# Altium footprint library AMP Footprints.PcbLib: 903 footprints (part 25 of 58)
Each footprint in its own frame and in the unit in brackets; x right, y up, seen from the top. Pads: shape width x height; smd on the part's side, far side on the other; paste and mask are expansions set on the pad; w line width, h text height; cw(c..) or ccw(c..) is an arc to the next point about the centre after c.
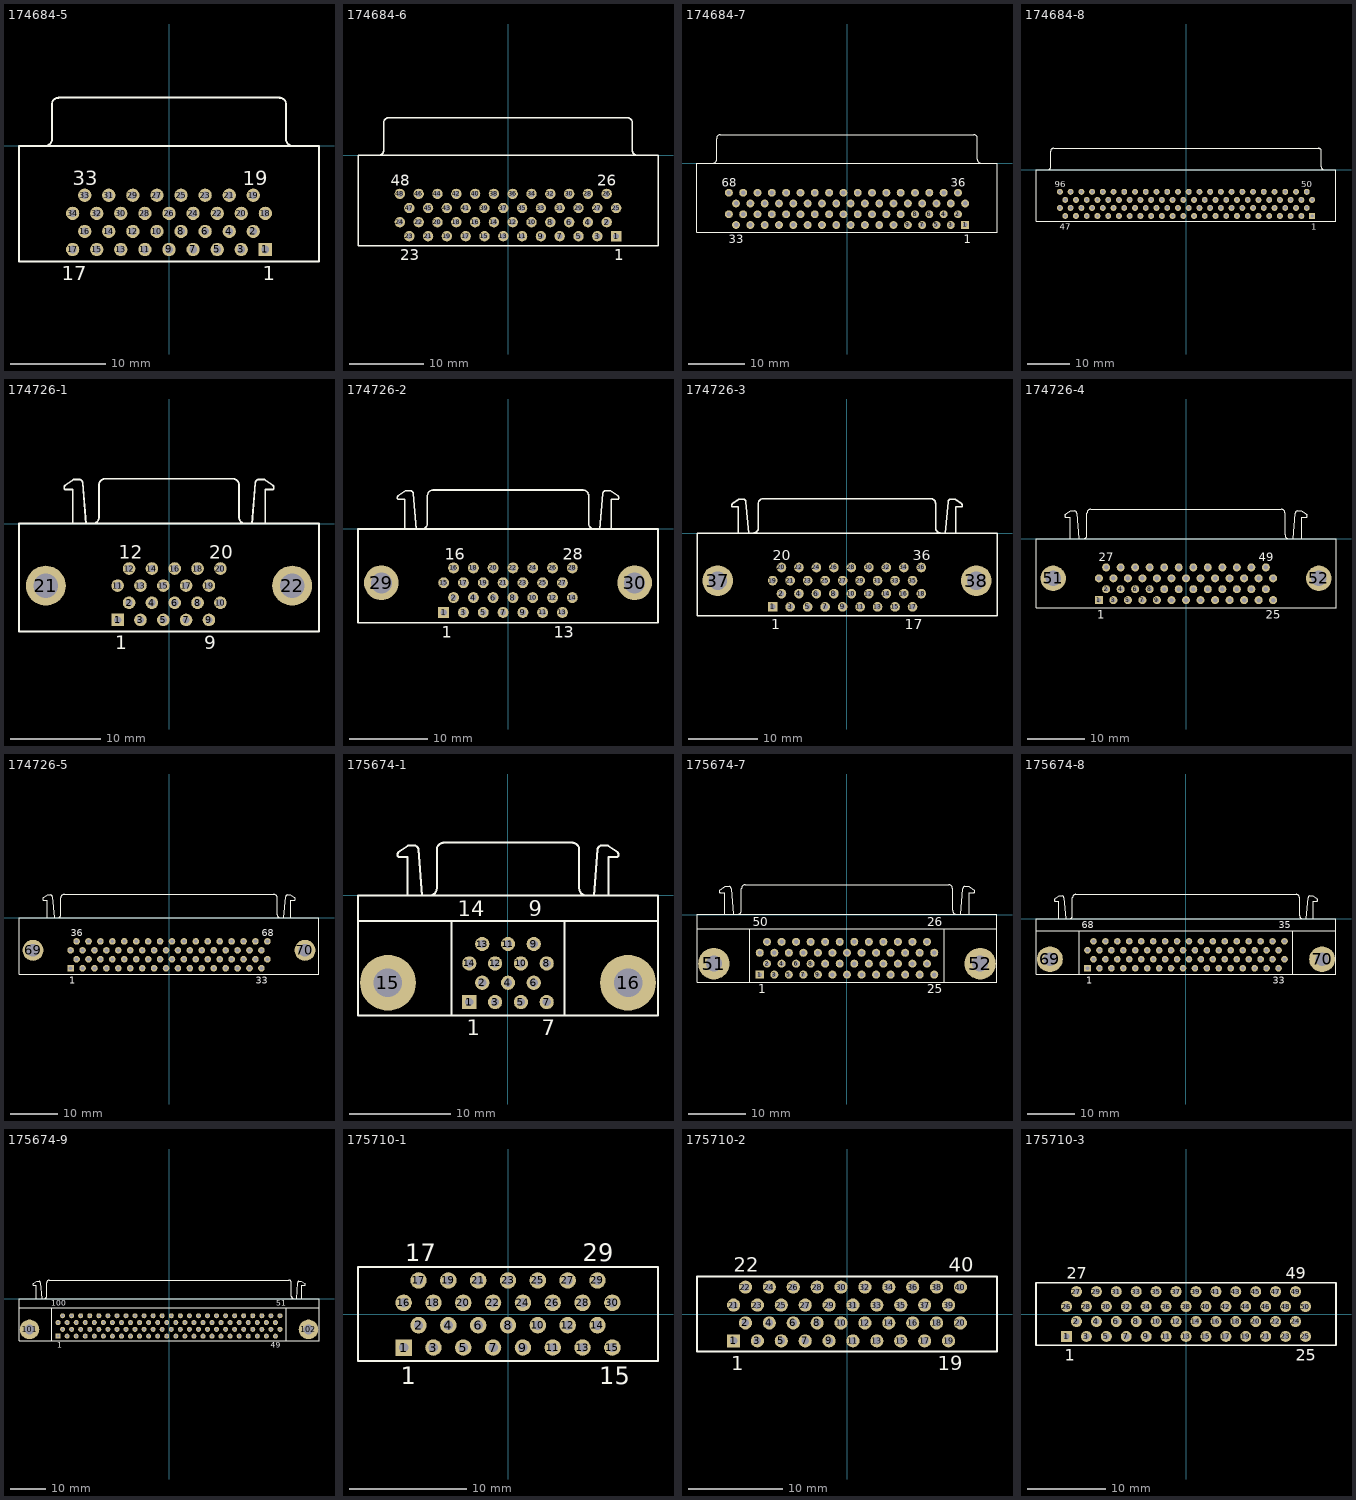
[diagram p24: the footprints below, top view; thin cyan lines are the x and y axes]

## 174684-5 [mm] "Connector; D Subminiature 050 Series; 34 Position; Right Angle"
height 7.5
pads (34):
  rect 1.4x1.4 hole 0.8: 1(10.16,-10.915)
  round 1.4 hole 0.8: 2(8.89,-9.01) 3(7.62,-10.915) 4(6.35,-9.01) 5(5.08,-10.915) 6(3.81,-9.01) 7(2.54,-10.915) 8(1.27,-9.01) 9(0,-10.915) 10(-1.27,-9.01) 11(-2.54,-10.915) 12(-3.81,-9.01) 13(-5.08,-10.915) 14(-6.35,-9.01) 15(-7.62,-10.915) 16(-8.89,-9.01) 17(-10.16,-10.915) 18(10.16,-7.105) 19(8.89,-5.2) 20(7.62,-7.105) 21(6.35,-5.2) 22(5.08,-7.105) 23(3.81,-5.2) 24(2.54,-7.105) 25(1.27,-5.2) 26(0,-7.105) 27(-1.27,-5.2) 28(-2.54,-7.105) 29(-3.81,-5.2) 30(-5.08,-7.105) 31(-6.35,-5.2) 32(-7.62,-7.105) 33(-8.89,-5.2) 34(-10.16,-7.105)
Top Overlay:
  lines w0.2: -13.04,0.005 ccw(c-13.04,0.7) -12.345,0.7 -12.345,4.38 cw(c-11.65,4.38) -11.65,5.075 ; -11.65,5.1 11.718,5.1 ; 11.65,5.075 cw(c11.65,4.38) 12.345,4.38 12.345,0.7 ccw(c13.04,0.7) 13.04,0.005 ; -15.815,-12.2 15.815,-12.2 15.815,0 -15.815,0 -15.815,-12.2
  text "19" at 7.765,-4.125 h1.5
  text "33" at -10.14,-4.125 h1.5
  text "17" at -11.285,-14.175 h1.5
  text "1" at 9.91,-14.175 h1.5

## 174684-6 [mm] "Connector; D Subminiature 050 Series; 48 Position; Right Angle"
height 7.5
pads (48):
  rect 1.4x1.4 hole 0.8: 1(14.605,-10.915)
  round 1.4 hole 0.8: 2(13.335,-9.01) 3(12.065,-10.915) 4(10.795,-9.01) 5(9.525,-10.915) 6(8.255,-9.01) 7(6.985,-10.915) 8(5.715,-9.01) 9(4.445,-10.915) 10(3.175,-9.01) 11(1.905,-10.915) 12(0.635,-9.01) 13(-0.635,-10.915) 14(-1.905,-9.01) 15(-3.175,-10.915) 16(-4.445,-9.01) 17(-5.715,-10.915) 18(-6.985,-9.01) 19(-8.255,-10.915) 20(-9.525,-9.01) 21(-10.795,-10.915) 22(-12.065,-9.01) 23(-13.335,-10.915) 24(-14.605,-9.01) 25(14.605,-7.105) 26(13.335,-5.2) 27(12.065,-7.105) 28(10.795,-5.2) 29(9.525,-7.105) 30(8.255,-5.2) 31(6.985,-7.105) 32(5.715,-5.2) 33(4.445,-7.105) 34(3.175,-5.2) 35(1.905,-7.105) 36(0.635,-5.2) 37(-0.635,-7.105) 38(-1.905,-5.2) 39(-3.175,-7.105) 40(-4.445,-5.2) 41(-5.715,-7.105) 42(-6.985,-5.2) 43(-8.255,-7.105) 44(-9.525,-5.2) 45(-10.795,-7.105) 46(-12.065,-5.2) 47(-13.335,-7.105) 48(-14.605,-5.2)
Top Overlay:
  lines w0.2: -17.485,0.005 ccw(c-17.485,0.7) -16.79,0.7 -16.79,4.4 cw(c-16.095,4.4) -16.095,5.095 ; -16.095,5.1 16.095,5.1 ; 16.095,5.095 cw(c16.095,4.4) 16.79,4.4 16.79,0.7 ccw(c17.485,0.7) 17.485,0.005 ; -20.26,-12.2 -20.26,0 20.26,0 20.26,-12.2 -20.26,-12.2
  text "48" at -15.855,-4.125 h1.5
  text "23" at -14.585,-14.175 h1.5
  text "1" at 14.355,-14.175 h1.5
  text "26" at 12.085,-4.125 h1.5

## 174684-7 [mm] "Connector; D Subminiature 050 Series; 68 Position; Right Angle"
height 7.5
pads (68):
  rect 1.4x1.4 hole 0.8: 1(20.955,-10.915)
  round 1.4 hole 0.8: 2(19.685,-9.01) 3(18.415,-10.915) 4(17.145,-9.01) 5(15.875,-10.915) 6(14.605,-9.01) 7(13.335,-10.915) 8(12.065,-9.01) 9(10.795,-10.915) 10(9.525,-9.01) 11(8.255,-10.915) 12(6.985,-9.01) 13(5.715,-10.915) 14(4.445,-9.01) 15(3.175,-10.915) 16(1.905,-9.01) 17(0.635,-10.915) 18(-0.635,-9.01) 19(-1.905,-10.915) 20(-3.175,-9.01) 21(-4.445,-10.915) 22(-5.715,-9.01) 23(-6.985,-10.915) 24(-8.255,-9.01) 25(-9.525,-10.915) 26(-10.795,-9.01) 27(-12.065,-10.915) 28(-13.335,-9.01) 29(-14.605,-10.915) 30(-15.875,-9.01) 31(-17.145,-10.915) 32(-18.415,-9.01) 33(-19.685,-10.915) 34(-20.955,-9.01) 35(20.955,-7.105) 36(19.685,-5.2) 37(18.415,-7.105) 38(17.145,-5.2) 39(15.875,-7.105) 40(14.605,-5.2) 41(13.335,-7.105) 42(12.065,-5.2) 43(10.795,-7.105) 44(9.525,-5.2) 45(8.255,-7.105) 46(6.985,-5.2) 47(5.715,-7.105) 48(4.445,-5.2) 49(3.175,-7.105) 50(1.905,-5.2) 51(0.635,-7.105) 52(-0.635,-5.2) 53(-1.905,-7.105) 54(-3.175,-5.2) 55(-4.445,-7.105) 56(-5.715,-5.2) 57(-6.985,-7.105) 58(-8.255,-5.2) 59(-9.525,-7.105) 60(-10.795,-5.2) 61(-12.065,-7.105) 62(-13.335,-5.2) 63(-14.605,-7.105) 64(-15.875,-5.2) 65(-17.145,-7.105) 66(-18.415,-5.2) 67(-19.685,-7.105) 68(-20.955,-5.2)
Top Overlay:
  lines w0.2: -23.835,0.005 ccw(c-23.835,0.7) -23.14,0.7 -23.14,4.393 cw(c-22.445,4.393) -22.445,5.088 ; -22.445,5.1 22.445,5.1 ; 22.445,5.088 cw(c22.445,4.393) 23.14,4.393 23.14,0.7 ccw(c23.835,0.7) 23.835,0.005 ; -26.61,-12.2 -26.61,0 26.61,0 26.61,-12.2 -26.61,-12.2
  text "1" at 20.705,-14.175 h1.5
  text "33" at -20.935,-14.175 h1.5
  text "68" at -22.205,-4.125 h1.5
  text "36" at 18.435,-4.125 h1.5

## 174684-8 [mm] "Connector; D Subminiature 050 Series; 96 Position; Right Angle"
height 7.5
pads (96):
  rect 1.4x1.4 hole 0.8: 1(29.845,-10.915)
  round 1.4 hole 0.8: 2(28.575,-9.01) 3(27.305,-10.915) 4(26.035,-9.01) 5(24.765,-10.915) 6(23.495,-9.01) 7(22.225,-10.915) 8(20.955,-9.01) 9(19.685,-10.915) 10(18.415,-9.01) 11(17.145,-10.915) 12(15.875,-9.01) 13(14.605,-10.915) 14(13.335,-9.01) 15(12.065,-10.915) 16(10.795,-9.01) 17(9.525,-10.915) 18(8.255,-9.01) 19(6.985,-10.915) 20(5.715,-9.01) 21(4.445,-10.915) 22(3.175,-9.01) 23(1.905,-10.915) 24(0.635,-9.01) 25(-0.635,-10.915) 26(-1.905,-9.01) 27(-3.175,-10.915) 28(-4.445,-9.01) 29(-5.715,-10.915) 30(-6.985,-9.01) 31(-8.255,-10.915) 32(-9.525,-9.01) 33(-10.795,-10.915) 34(-12.065,-9.01) 35(-13.335,-10.915) 36(-14.605,-9.01) 37(-15.875,-10.915) 38(-17.145,-9.01) 39(-18.415,-10.915) 40(-19.685,-9.01) 41(-20.955,-10.915) 42(-22.225,-9.01) 43(-23.495,-10.915) 44(-24.765,-9.01) 45(-26.035,-10.915) 46(-27.305,-9.01) 47(-28.575,-10.915) 48(-29.845,-9.01) 49(29.845,-7.105) 50(28.575,-5.2) 51(27.305,-7.105) 52(26.035,-5.2) 53(24.765,-7.105) 54(23.495,-5.2) 55(22.225,-7.105) 56(20.955,-5.2) 57(19.685,-7.105) 58(18.415,-5.2) 59(17.145,-7.105) 60(15.875,-5.2) 61(14.605,-7.105) 62(13.335,-5.2) 63(12.065,-7.105) 64(10.795,-5.2) 65(9.525,-7.105) 66(8.255,-5.2) 67(6.985,-7.105) 68(5.715,-5.2) 69(4.445,-7.105) 70(3.175,-5.2) 71(1.905,-7.105) 72(0.635,-5.2) 73(-0.635,-7.105) 74(-1.905,-5.2) 75(-3.175,-7.105) 76(-4.445,-5.2) 77(-5.715,-7.105) 78(-6.985,-5.2) 79(-8.255,-7.105) 80(-9.525,-5.2) 81(-10.795,-7.105) 82(-12.065,-5.2) 83(-13.335,-7.105) 84(-14.605,-5.2) 85(-15.875,-7.105) 86(-17.145,-5.2) 87(-18.415,-7.105) 88(-19.685,-5.2) 89(-20.955,-7.105) 90(-22.225,-5.2) 91(-23.495,-7.105) 92(-24.765,-5.2) 93(-26.035,-7.105) 94(-27.305,-5.2) 95(-28.575,-7.105) 96(-29.845,-5.2)
Top Overlay:
  lines w0.2: -32.725,0.005 ccw(c-32.725,0.7) -32.03,0.7 -32.03,4.413 cw(c-31.335,4.413) -31.335,5.108 ; -31.335,5.1 31.395,5.1 ; 31.335,5.118 cw(c31.335,4.423) 32.03,4.423 32.03,0.7 ccw(c32.725,0.7) 32.725,0.005 ; -35.5,-12.2 35.5,-12.2 35.5,0 -35.5,0 -35.5,-12.2
  text "50" at 27.325,-4.125 h1.5
  text "96" at -31.095,-4.125 h1.5
  text "47" at -29.825,-14.175 h1.5
  text "1" at 29.595,-14.175 h1.5

## 174726-1 [mm] "Connector; D Subminiature 050 Series; 20 Position; Right Angle"
height 10.55
pads (22):
  rect 1.4x1.4 hole 0.8: 1(-5.715,-10.715)
  round 1.4 hole 0.8: 2(-4.445,-8.81) 3(-3.175,-10.715) 4(-1.905,-8.81) 5(-0.635,-10.715) 6(0.635,-8.81) 7(1.905,-10.715) 8(3.175,-8.81) 9(4.445,-10.715) 10(5.715,-8.81) 11(-5.715,-6.905) 12(-4.445,-5) 13(-3.175,-6.905) 14(-1.905,-5) 15(-0.635,-6.905) 16(0.635,-5) 17(1.905,-6.905) 18(3.175,-5) 19(4.445,-6.905) 20(5.715,-5)
  round 4.45 hole 2.7: 21(-13.715,-6.905) 22(13.715,-6.905)
Top Overlay:
  lines w0.2: -11.575,4.27 -10.635,4.898 -9.913,4.898 cw(c-10.015,4.5) -9.605,4.5 ; -11.561,4.255 ccw(c-11.335,4.01) -11.585,3.79 -10.705,3.79 -10.705,0 ; -9.605,4.52 -9.235,0 ; -8.495,0.005 ccw(c-8.495,0.7) -7.8,0.7 -7.8,4.3 cw(c-7.105,4.3) -7.105,4.995 ; -7.105,5 7.105,5 ; 7.105,4.995 cw(c7.105,4.3) 7.8,4.3 7.8,0.7 ccw(c8.495,0.7) 8.495,0.005 ; 9.235,0 9.605,4.52 ; 9.605,4.5 cw(c10.015,4.5) 9.913,4.898 10.635,4.898 11.575,4.27 ; 10.705,0 10.705,3.79 11.585,3.79 ccw(c11.335,4.01) 11.561,4.255 ; -16.7,-12.015 -16.7,0 16.7,0 16.7,-12.015 -16.7,-12.015
  text "20" at 4.465,-3.925 h1.5
  text "12" at -5.57,-3.925 h1.5
  text "9" at 3.945,-13.99 h1.5
  text "1" at -5.965,-13.99 h1.5

## 174726-2 [mm] "Connector; D Subminiature 050 Series; 28 Position; Right Angle"
height 10.55
pads (30):
  rect 1.4x1.4 hole 0.8: 1(-8.255,-10.715)
  round 1.4 hole 0.8: 2(-6.985,-8.81) 3(-5.715,-10.715) 4(-4.445,-8.81) 5(-3.175,-10.715) 6(-1.905,-8.81) 7(-0.635,-10.715) 8(0.635,-8.81) 9(1.905,-10.715) 10(3.175,-8.81) 11(4.445,-10.715) 12(5.715,-8.81) 13(6.985,-10.715) 14(8.255,-8.81) 15(-8.255,-6.905) 16(-6.985,-5) 17(-5.715,-6.905) 18(-4.445,-5) 19(-3.175,-6.905) 20(-1.905,-5) 21(-0.635,-6.905) 22(0.635,-5) 23(1.905,-6.905) 24(3.175,-5) 25(4.445,-6.905) 26(5.715,-5) 27(6.985,-6.905) 28(8.255,-5)
  round 4.45 hole 2.7: 29(-16.255,-6.905) 30(16.255,-6.905)
Top Overlay:
  lines w0.2: -14.115,4.27 -13.175,4.898 -12.453,4.898 cw(c-12.555,4.5) -12.145,4.5 ; -14.101,4.255 ccw(c-13.875,4.01) -14.125,3.79 -13.245,3.79 -13.245,0 ; -12.145,4.52 -11.775,0 ; -11.035,0.005 ccw(c-11.035,0.7) -10.34,0.7 -10.34,4.305 ; -10.335,4.305 cw(c-9.64,4.305) -9.64,5 9.645,5 cw(c9.645,4.305) 10.34,4.305 10.34,0.7 ccw(c11.035,0.7) 11.035,0.005 ; 11.78,0 12.15,4.52 ; 12.15,4.5 cw(c12.56,4.5) 12.458,4.898 13.18,4.898 14.12,4.27 ; 13.25,0 13.25,3.79 14.13,3.79 ccw(c13.88,4.01) 14.106,4.255 ; -19.25,-12.015 -19.25,0 19.25,0 19.25,-12.015 -19.25,-12.015
  text "16" at -8.11,-3.925 h1.5
  text "28" at 7.005,-3.925 h1.5
  text "1" at -8.505,-13.99 h1.5
  text "13" at 5.86,-13.99 h1.5

## 174726-3 [mm] "Connector; D Subminiature 050 Series; 36 Position; Right Angle"
height 10.55
pads (38):
  rect 1.4x1.4 hole 0.8: 1(-10.795,-10.715)
  round 1.4 hole 0.8: 2(-9.525,-8.81) 3(-8.255,-10.715) 4(-6.985,-8.81) 5(-5.715,-10.715) 6(-4.445,-8.81) 7(-3.175,-10.715) 8(-1.905,-8.81) 9(-0.635,-10.715) 10(0.635,-8.81) 11(1.905,-10.715) 12(3.175,-8.81) 13(4.445,-10.715) 14(5.715,-8.81) 15(6.985,-10.715) 16(8.255,-8.81) 17(9.525,-10.715) 18(10.795,-8.81) 19(-10.795,-6.905) 20(-9.525,-5) 21(-8.255,-6.905) 22(-6.985,-5) 23(-5.715,-6.905) 24(-4.445,-5) 25(-3.175,-6.905) 26(-1.905,-5) 27(-0.635,-6.905) 28(0.635,-5) 29(1.905,-6.905) 30(3.175,-5) 31(4.445,-6.905) 32(5.715,-5) 33(6.985,-6.905) 34(8.255,-5) 35(9.525,-6.905) 36(10.795,-5)
  round 4.45 hole 2.7: 37(-18.8,-6.905) 38(18.8,-6.905)
Top Overlay:
  lines w0.2: -16.655,4.28 -15.715,4.908 -14.993,4.908 cw(c-15.095,4.51) -14.685,4.51 ; -16.641,4.265 ccw(c-16.415,4.02) -16.665,3.8 -15.785,3.8 -15.785,0.01 ; -14.685,4.53 -14.315,0.01 ; -13.585,0.025 ccw(c-13.585,0.72) -12.89,0.72 ; -12.88,0.72 -12.88,4.31 cw(c-12.185,4.31) -12.185,5.005 ; -12.185,5 12.185,5 ; 12.175,5.005 cw(c12.175,4.31) 12.87,4.31 ; 12.88,4.31 12.88,0.72 ccw(c13.575,0.72) 13.575,0.025 ; 14.315,0.01 14.685,4.53 ; 14.685,4.51 cw(c15.095,4.51) 14.993,4.908 15.715,4.908 16.655,4.28 ; 15.785,0.01 15.785,3.8 16.665,3.8 ccw(c16.415,4.02) 16.641,4.265 ; -21.8,-12.015 21.8,-12.015 21.8,0 -21.8,0 -21.8,-12.015
  text "1" at -11.045,-13.99 h1.5
  text "17" at 8.4,-13.99 h1.5
  text "20" at -10.775,-3.925 h1.5
  text "36" at 9.545,-3.925 h1.5

## 174726-4 [mm] "Connector; D Subminiature 050 Series; 50 Position; Right Angle"
height 10.55
pads (52):
  rect 1.4x1.4 hole 0.8: 1(-15.24,-10.71)
  round 1.4 hole 0.8: 2(-13.97,-8.805) 3(-12.7,-10.71) 4(-11.43,-8.805) 5(-10.16,-10.71) 6(-8.89,-8.805) 7(-7.62,-10.71) 8(-6.35,-8.805) 9(-5.08,-10.71) 10(-3.81,-8.805) 11(-2.54,-10.71) 12(-1.27,-8.805) 13(0,-10.71) 14(1.27,-8.805) 15(2.54,-10.71) 16(3.81,-8.805) 17(5.08,-10.71) 18(6.35,-8.805) 19(7.62,-10.71) 20(8.89,-8.805) 21(10.16,-10.71) 22(11.43,-8.805) 23(12.7,-10.71) 24(13.97,-8.805) 25(15.24,-10.71) 26(-15.24,-6.9) 27(-13.97,-4.995) 28(-12.7,-6.9) 29(-11.43,-4.995) 30(-10.16,-6.9) 31(-8.89,-4.995) 32(-7.62,-6.9) 33(-6.35,-4.995) 34(-5.08,-6.9) 35(-3.81,-4.995) 36(-2.54,-6.9) 37(-1.27,-4.995) 38(0,-6.9) 39(1.27,-4.995) 40(2.54,-6.9) 41(3.81,-4.995) 42(5.08,-6.9) 43(6.35,-4.995) 44(7.62,-6.9) 45(8.89,-4.995) 46(10.16,-6.9) 47(11.43,-4.995) 48(12.7,-6.9) 49(13.97,-4.995) 50(15.24,-6.9)
  round 4.45 hole 2.7: 51(-23.24,-6.9) 52(23.24,-6.9)
Top Overlay:
  lines w0.2: -21.1,4.27 -20.16,4.898 -19.438,4.898 cw(c-19.54,4.5) -19.13,4.5 ; -21.086,4.255 ccw(c-20.86,4.01) -21.11,3.79 -20.23,3.79 -20.23,0 ; -19.13,4.52 -18.76,0 ; -18.02,0.005 ccw(c-18.02,0.7) -17.325,0.7 -17.325,4.5 ; -17.32,4.505 cw(c-16.625,4.505) -16.625,5.2 16.625,5.2 cw(c16.625,4.505) 17.32,4.505 ; 17.325,4.5 17.325,0.7 ccw(c18.02,0.7) 18.02,0.005 ; 18.76,0 19.13,4.52 ; 19.13,4.5 cw(c19.54,4.5) 19.438,4.898 20.16,4.898 21.1,4.27 ; 20.23,0 20.23,3.79 21.11,3.79 ccw(c20.86,4.01) 21.086,4.255 ; -26.24,-12.01 -26.24,0 26.24,0 26.24,-12.01 -26.24,-12.01
  text "1" at -15.49,-13.985 h1.5
  text "25" at 13.99,-13.985 h1.5
  text "27" at -15.22,-3.92 h1.5
  text "49" at 12.72,-3.92 h1.5

## 174726-5 [mm] "Connector; D Subminiature 050 Series; 68 Position; Right Angle"
height 10.55
pads (70):
  rect 1.4x1.4 hole 0.8: 1(-20.955,-10.715)
  round 1.4 hole 0.8: 2(-19.685,-8.81) 3(-18.415,-10.715) 4(-17.145,-8.81) 5(-15.875,-10.715) 6(-14.605,-8.81) 7(-13.335,-10.715) 8(-12.065,-8.81) 9(-10.795,-10.715) 10(-9.525,-8.81) 11(-8.255,-10.715) 12(-6.985,-8.81) 13(-5.715,-10.715) 14(-4.445,-8.81) 15(-3.175,-10.715) 16(-1.905,-8.81) 17(-0.635,-10.715) 18(0.635,-8.81) 19(1.905,-10.715) 20(3.175,-8.81) 21(4.445,-10.715) 22(5.715,-8.81) 23(6.985,-10.715) 24(8.255,-8.81) 25(9.525,-10.715) 26(10.795,-8.81) 27(12.065,-10.715) 28(13.335,-8.81) 29(14.605,-10.715) 30(15.875,-8.81) 31(17.145,-10.715) 32(18.415,-8.81) 33(19.685,-10.715) 34(20.955,-8.81) 35(-20.955,-6.905) 36(-19.685,-5) 37(-18.415,-6.905) 38(-17.145,-5) 39(-15.875,-6.905) 40(-14.605,-5) 41(-13.335,-6.905) 42(-12.065,-5) 43(-10.795,-6.905) 44(-9.525,-5) 45(-8.255,-6.905) 46(-6.985,-5) 47(-5.715,-6.905) 48(-4.445,-5) 49(-3.175,-6.905) 50(-1.905,-5) 51(-0.635,-6.905) 52(0.635,-5) 53(1.905,-6.905) 54(3.175,-5) 55(4.445,-6.905) 56(5.715,-5) 57(6.985,-6.905) 58(8.255,-5) 59(9.525,-6.905) 60(10.795,-5) 61(12.065,-6.905) 62(13.335,-5) 63(14.605,-6.905) 64(15.875,-5) 65(17.145,-6.905) 66(18.415,-5) 67(19.685,-6.905) 68(20.955,-5)
  round 4.45 hole 2.7: 69(-28.955,-6.905) 70(28.955,-6.905)
Top Overlay:
  lines w0.2: -26.815,4.27 -25.875,4.898 -25.153,4.898 cw(c-25.255,4.5) -24.845,4.5 ; -26.801,4.255 ccw(c-26.575,4.01) -26.825,3.79 -25.945,3.79 -25.945,0 ; -24.845,4.52 -24.475,0 ; -23.735,0.005 ccw(c-23.735,0.7) -23.04,0.7 -23.04,4.3 cw(c-22.345,4.3) -22.345,4.995 ; -22.345,5 22.345,5 ; 22.345,4.995 cw(c22.345,4.3) 23.04,4.3 23.04,0.7 ccw(c23.735,0.7) 23.735,0.005 ; 24.475,0 24.845,4.52 ; 24.845,4.5 cw(c25.255,4.5) 25.153,4.898 25.875,4.898 26.815,4.27 ; 25.945,0 25.945,3.79 26.825,3.79 ccw(c26.575,4.01) 26.801,4.255 ; -31.95,-12.015 31.95,-12.015 31.95,0 -31.95,0 -31.95,-12.015
  text "68" at 19.705,-3.925 h1.5
  text "36" at -20.935,-3.925 h1.5
  text "33" at 18.435,-13.99 h1.5
  text "1" at -21.205,-13.99 h1.5

## 175674-1 [mm] "Connector; CHAMP Miniature Ribbon 050 Series II; 14 Position; Right Angle"
height 9.6
pads (16):
  rect 1.4x1.4 hole 0.8: 1(-3.81,-10.5)
  round 1.4 hole 0.8: 2(-2.54,-8.595) 3(-1.27,-10.5) 4(0,-8.595) 5(1.27,-10.5) 6(2.54,-8.595) 7(3.81,-10.5) 8(3.81,-6.69) 9(2.54,-4.785) 10(1.27,-6.69) 11(0,-4.785) 12(-1.27,-6.69) 13(-2.54,-4.785) 14(-3.81,-6.69)
  round 5.5 hole 2.8: 15(-11.82,-8.595) 16(11.82,-8.595)
Top Overlay:
  lines w0.2: -14.77,-2.5 14.77,-2.5 ; -10.785,4.27 -9.845,4.898 -9.123,4.898 cw(c-9.225,4.5) -8.815,4.5 ; -10.771,4.255 ccw(c-10.545,4.01) -10.795,3.79 -9.915,3.79 -9.915,0 ; -8.815,4.52 -8.445,0 ; -7.705,0.005 ccw(c-7.705,0.7) -7.01,0.7 -7.01,4.5 ; -7.005,4.505 cw(c-6.31,4.505) -6.31,5.2 6.31,5.2 cw(c6.31,4.505) 7.005,4.505 ; -5.57,-11.8 -5.57,-2.58 ; 5.57,-11.8 5.57,-2.5 ; 7.01,4.5 7.01,0.7 ccw(c7.705,0.7) 7.705,0.005 ; 8.445,0 8.815,4.52 ; 8.815,4.5 cw(c9.225,4.5) 9.123,4.898 9.845,4.898 10.785,4.27 ; 9.915,0 9.915,3.79 10.795,3.79 ccw(c10.545,4.01) 10.771,4.255 ; -14.77,-11.8 14.77,-11.8 14.77,0 -14.77,0 -14.77,-11.8
  text "9" at 2.04,-2.025 h1.5
  text "14" at -4.935,-2.025 h1.5
  text "1" at -4.06,-13.775 h1.5
  text "7" at 3.31,-13.775 h1.5

## 175674-7 [mm] "Connector; CHAMP Miniature Ribbon 050 Series II; 50 Position; Right Angle"
height 9.6
pads (52):
  rect 1.4x1.4 hole 0.8: 1(-15.24,-10.477)
  round 1.4 hole 0.8: 2(-13.97,-8.572) 3(-12.7,-10.477) 4(-11.43,-8.572) 5(-10.16,-10.477) 6(-8.89,-8.572) 7(-7.62,-10.477) 8(-6.35,-8.572) 9(-5.08,-10.477) 10(-3.81,-8.572) 11(-2.54,-10.477) 12(-1.27,-8.572) 13(0,-10.477) 14(1.27,-8.572) 15(2.54,-10.477) 16(3.81,-8.572) 17(5.08,-10.477) 18(6.35,-8.572) 19(7.62,-10.477) 20(8.89,-8.572) 21(10.16,-10.477) 22(11.43,-8.572) 23(12.7,-10.477) 24(13.97,-8.572) 25(15.24,-10.477) 26(15.24,-6.667) 27(13.97,-4.763) 28(12.7,-6.667) 29(11.43,-4.763) 30(10.16,-6.667) 31(8.89,-4.763) 32(7.62,-6.667) 33(6.35,-4.763) 34(5.08,-6.667) 35(3.81,-4.763) 36(2.54,-6.667) 37(1.27,-4.763) 38(0,-6.667) 39(-1.27,-4.763) 40(-2.54,-6.667) 41(-3.81,-4.763) 42(-5.08,-6.667) 43(-6.35,-4.763) 44(-7.62,-6.667) 45(-8.89,-4.763) 46(-10.16,-6.667) 47(-11.43,-4.763) 48(-12.7,-6.667) 49(-13.97,-4.763) 50(-15.24,-6.667)
  round 5.5 hole 2.8: 51(-23.25,-8.572) 52(23.25,-8.572)
Top Overlay:
  lines w0.2: -26.2,-2.478 26.2,-2.478 ; -22.215,4.292 -21.275,4.92 -20.553,4.92 cw(c-20.655,4.523) -20.245,4.523 ; -22.201,4.277 ccw(c-21.975,4.032) -22.225,3.812 -21.345,3.813 -21.345,0.022 ; -20.245,4.543 -19.875,0.022 ; -19.135,0.028 ccw(c-19.135,0.723) -18.44,0.723 -18.44,4.523 ; -18.435,4.527 cw(c-17.74,4.527) -17.74,5.222 17.74,5.222 cw(c17.74,4.527) 18.435,4.527 ; -17,-11.777 -17,-2.558 ; 17,-11.777 17,-2.478 ; 18.44,4.523 18.44,0.723 ccw(c19.135,0.723) 19.135,0.028 ; 19.875,0.022 20.245,4.543 ; 20.245,4.523 cw(c20.655,4.523) 20.553,4.92 21.275,4.92 22.215,4.292 ; 21.345,0.022 21.345,3.812 22.225,3.813 ccw(c21.975,4.032) 22.201,4.277 ; -26.2,-11.777 -26.2,0.022 26.2,0.022 26.2,-11.777 -26.2,-11.777
  text "1" at -15.49,-13.752 h1.5
  text "25" at 13.99,-13.752 h1.5
  text "50" at -16.49,-2.003 h1.5
  text "26" at 13.99,-2.003 h1.5

## 175674-8 [mm] "Connector; CHAMP Miniature Ribbon 050 Series II; 68 Position; Right Angle"
height 9.6
pads (70):
  rect 1.4x1.4 hole 0.8: 1(-20.955,-10.5)
  round 1.4 hole 0.8: 2(-19.685,-8.595) 3(-18.415,-10.5) 4(-17.145,-8.595) 5(-15.875,-10.5) 6(-14.605,-8.595) 7(-13.335,-10.5) 8(-12.065,-8.595) 9(-10.795,-10.5) 10(-9.525,-8.595) 11(-8.255,-10.5) 12(-6.985,-8.595) 13(-5.715,-10.5) 14(-4.445,-8.595) 15(-3.175,-10.5) 16(-1.905,-8.595) 17(-0.635,-10.5) 18(0.635,-8.595) 19(1.905,-10.5) 20(3.175,-8.595) 21(4.445,-10.5) 22(5.715,-8.595) 23(6.985,-10.5) 24(8.255,-8.595) 25(9.525,-10.5) 26(10.795,-8.595) 27(12.065,-10.5) 28(13.335,-8.595) 29(14.605,-10.5) 30(15.875,-8.595) 31(17.145,-10.5) 32(18.415,-8.595) 33(19.685,-10.5) 34(20.955,-8.595) 35(20.955,-4.785) 36(19.685,-6.69) 37(18.415,-4.785) 38(17.145,-6.69) 39(15.875,-4.785) 40(14.605,-6.69) 41(13.335,-4.785) 42(12.065,-6.69) 43(10.795,-4.785) 44(9.525,-6.69) 45(8.255,-4.785) 46(6.985,-6.69) 47(5.715,-4.785) 48(4.445,-6.69) 49(3.175,-4.785) 50(1.905,-6.69) 51(0.635,-4.785) 52(-0.635,-6.69) 53(-1.905,-4.785) 54(-3.175,-6.69) 55(-4.445,-4.785) 56(-5.715,-6.69) 57(-6.985,-4.785) 58(-8.255,-6.69) 59(-9.525,-4.785) 60(-10.795,-6.69) 61(-12.065,-4.785) 62(-13.335,-6.69) 63(-14.605,-4.785) 64(-15.875,-6.69) 65(-17.145,-4.785) 66(-18.415,-6.69) 67(-19.685,-4.785) 68(-20.955,-6.69)
  round 5.5 hole 2.8: 69(-28.965,-8.595) 70(28.965,-8.595)
Top Overlay:
  lines w0.2: -31.915,-2.5 31.915,-2.5 ; -27.93,4.27 -26.99,4.898 -26.268,4.898 cw(c-26.37,4.5) -25.96,4.5 ; -27.916,4.255 ccw(c-27.69,4.01) -27.94,3.79 -27.06,3.79 -27.06,0 ; -25.96,4.52 -25.59,0 ; -24.85,0.005 ccw(c-24.85,0.7) -24.155,0.7 -24.155,4.5 ; -24.15,4.505 cw(c-23.455,4.505) -23.455,5.2 23.455,5.2 cw(c23.455,4.505) 24.15,4.505 ; -22.715,-11.8 -22.715,-2.58 ; 22.715,-11.8 22.715,-2.5 ; 24.155,4.5 24.155,0.7 ccw(c24.85,0.7) 24.85,0.005 ; 25.59,0 25.96,4.52 ; 25.96,4.5 cw(c26.37,4.5) 26.268,4.898 26.99,4.898 27.93,4.27 ; 27.06,0 27.06,3.79 27.94,3.79 ccw(c27.69,4.01) 27.916,4.255 ; -31.915,-11.8 -31.915,0 31.915,0 31.915,-11.8 -31.915,-11.8
  text "35" at 19.705,-2.025 h1.5
  text "68" at -22.205,-2.025 h1.5
  text "33" at 18.435,-13.775 h1.5
  text "1" at -21.205,-13.775 h1.5

## 175674-9 [mm] "Connector; CHAMP Miniature Ribbon 050 Series II; 100 Position; Right Angle"
height 9.6
pads (102):
  rect 1.4x1.4 hole 0.8: 1(-31.115,-10.5)
  round 1.4 hole 0.8: 2(-29.845,-8.595) 3(-28.575,-10.5) 4(-27.305,-8.595) 5(-26.035,-10.5) 6(-24.765,-8.595) 7(-23.495,-10.5) 8(-22.225,-8.595) 9(-20.955,-10.5) 10(-19.685,-8.595) 11(-18.415,-10.5) 12(-17.145,-8.595) 13(-15.875,-10.5) 14(-14.605,-8.595) 15(-13.335,-10.5) 16(-12.065,-8.595) 17(-10.795,-10.5) 18(-9.525,-8.595) 19(-8.255,-10.5) 20(-6.985,-8.595) 21(-5.715,-10.5) 22(-4.445,-8.595) 23(-3.175,-10.5) 24(-1.905,-8.595) 25(-0.635,-10.5) 26(0.635,-8.595) 27(1.905,-10.5) 28(3.175,-8.595) 29(4.445,-10.5) 30(5.715,-8.595) 31(6.985,-10.5) 32(8.255,-8.595) 33(9.525,-10.5) 34(10.795,-8.595) 35(12.065,-10.5) 36(13.335,-8.595) 37(14.605,-10.5) 38(15.875,-8.595) 39(17.145,-10.5) 40(18.415,-8.595) 41(19.685,-10.5) 42(20.955,-8.595) 43(22.225,-10.5) 44(23.495,-8.595) 45(24.765,-10.5) 46(26.035,-8.595) 47(27.305,-10.5) 48(28.575,-8.595) 49(29.845,-10.5) 50(31.115,-8.595) 51(31.115,-4.785) 52(29.845,-6.69) 53(28.575,-4.785) 54(27.305,-6.69) 55(26.035,-4.785) 56(24.765,-6.69) 57(23.495,-4.785) 58(22.225,-6.69) 59(20.955,-4.785) 60(19.685,-6.69) 61(18.415,-4.785) 62(17.145,-6.69) 63(15.875,-4.785) 64(14.605,-6.69) 65(13.335,-4.785) 66(12.065,-6.69) 67(10.795,-4.785) 68(9.525,-6.69) 69(8.255,-4.785) 70(6.985,-6.69) 71(5.715,-4.785) 72(4.445,-6.69) 73(3.175,-4.785) 74(1.905,-6.69) 75(0.635,-4.785) 76(-0.635,-6.69) 77(-1.905,-4.785) 78(-3.175,-6.69) 79(-4.445,-4.785) 80(-5.715,-6.69) 81(-6.985,-4.785) 82(-8.255,-6.69) 83(-9.525,-4.785) 84(-10.795,-6.69) 85(-12.065,-4.785) 86(-13.335,-6.69) 87(-14.605,-4.785) 88(-15.875,-6.69) 89(-17.145,-4.785) 90(-18.415,-6.69) 91(-19.685,-4.785) 92(-20.955,-6.69) 93(-22.225,-4.785) 94(-23.495,-6.69) 95(-24.765,-4.785) 96(-26.035,-6.69) 97(-27.305,-4.785) 98(-28.575,-6.69) 99(-29.845,-4.785) 100(-31.115,-6.69)
  round 5.5 hole 2.8: 101(-39.125,-8.595) 102(39.125,-8.595)
Top Overlay:
  lines w0.2: -42.075,-2.5 42.075,-2.5 ; -38.09,4.27 -37.15,4.898 -36.428,4.898 cw(c-36.53,4.5) -36.12,4.5 ; -38.076,4.255 ccw(c-37.85,4.01) -38.1,3.79 -37.22,3.79 -37.22,0 ; -36.12,4.52 -35.75,0 ; -35.01,0.005 ccw(c-35.01,0.7) -34.315,0.7 -34.315,4.5 ; -34.31,4.505 cw(c-33.615,4.505) -33.615,5.2 33.615,5.2 ; -32.875,-11.8 -32.875,-2.58 ; 32.875,-11.8 32.875,-2.5 ; 33.63,5.2 cw(c33.63,4.505) 34.325,4.505 ; 34.33,4.5 34.33,0.7 ccw(c35.025,0.7) 35.025,0.005 ; 35.765,0 36.135,4.52 ; 36.135,4.5 cw(c36.545,4.5) 36.443,4.898 37.165,4.898 38.105,4.27 ; 37.235,0 37.235,3.79 38.115,3.79 ccw(c37.865,4.01) 38.091,4.255 ; -42.075,-11.8 42.075,-11.8 42.075,0 -42.075,0 -42.075,-11.8
  text "51" at 30.115,-2.025 h1.5
  text "100" at -32.99,-2.025 h1.5
  text "49" at 28.595,-13.775 h1.5
  text "1" at -31.365,-13.775 h1.5

## 175710-1 [mm] "Connector; D Subminiature 050 Series; 30 Position; Vertical"
height 7.9
pads (30):
  rect 1.4x1.4 hole 0.8: 1(-8.89,-2.857)
  round 1.4 hole 0.8: 2(-7.62,-0.953) 3(-6.35,-2.857) 4(-5.08,-0.953) 5(-3.81,-2.857) 6(-2.54,-0.953) 7(-1.27,-2.857) 8(0,-0.953) 9(1.27,-2.857) 10(2.54,-0.953) 11(3.81,-2.857) 12(5.08,-0.953) 13(6.35,-2.857) 14(7.62,-0.953) 15(8.89,-2.857) 16(-8.89,0.953) 17(-7.62,2.857) 18(-6.35,0.953) 19(-5.08,2.857) 20(-3.81,0.953) 21(-2.54,2.857) 22(-1.27,0.953) 23(0,2.857) 24(1.27,0.953) 25(2.54,2.857) 26(3.81,0.953) 27(5.08,2.857) 28(6.35,0.953) 29(7.62,2.857) 30(8.89,0.953)
Top Overlay:
  lines w0.2: -12.775,-4 12.775,-4 12.775,4 -12.775,4 -12.775,-4
  text "1" at -9.14,-5.975 h1.5
  text "29" at 6.37,4.475 h1.5
  text "17" at -8.745,4.475 h1.5
  text "15" at 7.765,-5.975 h1.5

## 175710-2 [mm] "Connector; D Subminiature 050 Series; 40 Position; Vertical"
height 7.9
pads (40):
  rect 1.4x1.4 hole 0.8: 1(-12.065,-2.857)
  round 1.4 hole 0.8: 2(-10.795,-0.953) 3(-9.525,-2.857) 4(-8.255,-0.953) 5(-6.985,-2.857) 6(-5.715,-0.953) 7(-4.445,-2.857) 8(-3.175,-0.953) 9(-1.905,-2.857) 10(-0.635,-0.953) 11(0.635,-2.857) 12(1.905,-0.953) 13(3.175,-2.857) 14(4.445,-0.953) 15(5.715,-2.857) 16(6.985,-0.953) 17(8.255,-2.857) 18(9.525,-0.953) 19(10.795,-2.857) 20(12.065,-0.953) 21(-12.065,0.953) 22(-10.795,2.857) 23(-9.525,0.953) 24(-8.255,2.857) 25(-6.985,0.953) 26(-5.715,2.857) 27(-4.445,0.953) 28(-3.175,2.857) 29(-1.905,0.953) 30(-0.635,2.857) 31(0.635,0.953) 32(1.905,2.857) 33(3.175,0.953) 34(4.445,2.857) 35(5.715,0.953) 36(6.985,2.857) 37(8.255,0.953) 38(9.525,2.857) 39(10.795,0.953) 40(12.065,2.857)
Top Overlay:
  lines w0.2: -15.95,-4 -15.95,4 15.95,4 15.95,-4 -15.95,-4
  text "40" at 10.815,4.475 h1.5
  text "22" at -12.045,4.475 h1.5
  text "19" at 9.67,-5.975 h1.5
  text "1" at -12.315,-5.975 h1.5

## 175710-3 [mm] "Connector; D Subminiature 050 Series; 50 Position; Vertical"
height 7.9
pads (50):
  rect 1.4x1.4 hole 0.8: 1(-15.24,-2.857)
  round 1.4 hole 0.8: 2(-13.97,-0.953) 3(-12.7,-2.857) 4(-11.43,-0.953) 5(-10.16,-2.857) 6(-8.89,-0.953) 7(-7.62,-2.857) 8(-6.35,-0.953) 9(-5.08,-2.857) 10(-3.81,-0.953) 11(-2.54,-2.857) 12(-1.27,-0.953) 13(0,-2.857) 14(1.27,-0.953) 15(2.54,-2.857) 16(3.81,-0.953) 17(5.08,-2.857) 18(6.35,-0.953) 19(7.62,-2.857) 20(8.89,-0.953) 21(10.16,-2.857) 22(11.43,-0.953) 23(12.7,-2.857) 24(13.97,-0.953) 25(15.24,-2.857) 26(-15.24,0.953) 27(-13.97,2.857) 28(-12.7,0.953) 29(-11.43,2.857) 30(-10.16,0.953) 31(-8.89,2.857) 32(-7.62,0.953) 33(-6.35,2.857) 34(-5.08,0.953) 35(-3.81,2.857) 36(-2.54,0.953) 37(-1.27,2.857) 38(0,0.953) 39(1.27,2.857) 40(2.54,0.953) 41(3.81,2.857) 42(5.08,0.953) 43(6.35,2.857) 44(7.62,0.953) 45(8.89,2.857) 46(10.16,0.953) 47(11.43,2.857) 48(12.7,0.953) 49(13.97,2.857) 50(15.24,0.953)
Top Overlay:
  lines w0.2: -19.13,-4 19.13,-4 19.13,4 -19.13,4 -19.13,-4
  text "1" at -15.49,-5.975 h1.5
  text "25" at 13.99,-5.975 h1.5
  text "27" at -15.22,4.475 h1.5
  text "49" at 12.72,4.475 h1.5